# Altium schematic symbol library AS5147.Schlib: 1 symbol
Pins are listed as number, name and electrical type; pins without a type are passive.

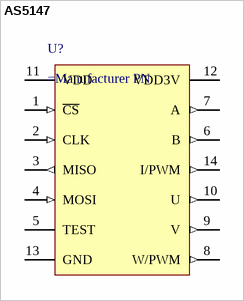
[diagram p0: symbol AS5147]

## AS5147
designator U?
14-bit On-Axis Magnetic Rotary Encoder Sensor
pins: 1 ~{CS} (in), 2 CLK (in), 3 MISO (out), 4 MOSI (in), 5 TEST, 6 B (out), 7 A (out), 8 W/PWM (out), 9 V (out), 10 U (out), 11 VDD (power), 12 VDD3V (power), 13 GND (power), 14 I/PWM (out)